# Altium footprint library P25-0423.PcbLib: 1 footprints
Each footprint in its own frame and in the unit in brackets; x right, y up, seen from the top. Pads: shape width x height; smd on the part's side, far side on the other; paste and mask are expansions set on the pad; w line width, h text height; cw(c..) or ccw(c..) is an arc to the next point about the centre after c.
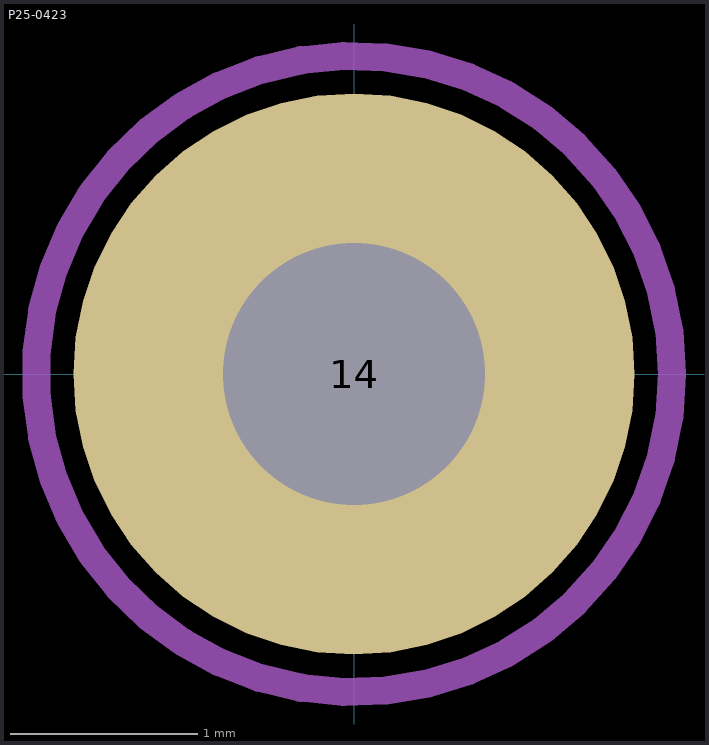
[diagram p0: the footprint, top view; thin cyan lines are the x and y axes]

## P25-0423 [mm]
pads (1):
  round 3 hole 1.4 mask+0.05: 14(0,0)
Top Courtyard:
  circle w0.15: c0,0 r1.7
Bottom Assembly:
  circle w0.15: c0,0 r1.7
3D body "p25-0423.stp": height 7.7, standoff -17, extent -0.9,-0.9 0.9,0.9